# EAGLE library part OPAMP (library StasDuinoLib2)
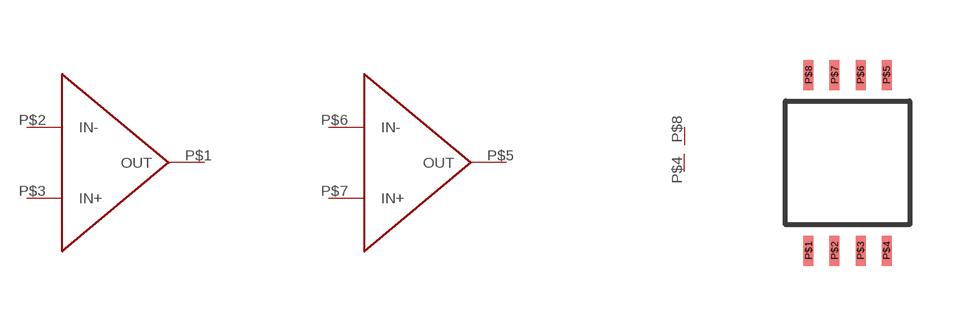
[diagram p2: symbol with the pads of OPAMP; footprint OPAMP]

Designator prefix -; gates G$1=OPAMP G$2=OPAMP G$3=OPAMP_POWER

## OPAMP  [OPAMP]
P$1  G$1:OUT
P$2  G$1:IN-
P$3  G$1:IN+
P$4  G$3:VEE
P$5  G$2:OUT
P$6  G$2:IN-
P$7  G$2:IN+
P$8  G$3:VCC

## Footprint OPAMP (pad centres in mm)
smd 0.25 x 0.75: P$1 -0.975,-2.2; P$2 -0.325,-2.2; P$3 0.325,-2.2; P$4 0.975,-2.2; P$5 0.975,2.2; P$6 0.325,2.2; P$7 -0.325,2.2; P$8 -0.975,2.2